# Altium integrated library PCIe_SIM7000.IntLib: 1 symbol
Pins are listed as number, name and electrical type; pins without a type are passive.

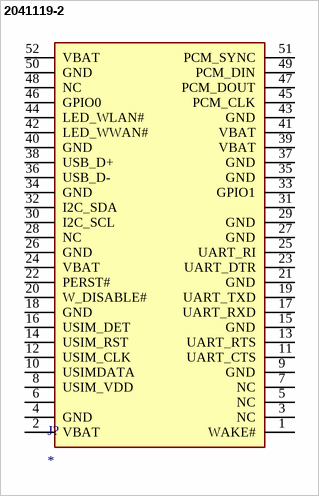
[diagram p0: symbol 2041119-2]

## 2041119-2
designator J?
Connector; Manufacturer_Name: TE Connectivity; Manufacturer_Part_Number: 2041119-2; Datasheet Link: https://componentsearchengine.com//2041119-2.pdf; Height: 4mm; Mouser2 Part Number: 571-2041119-2; Mouser2 Price/Stock: https://www.mouser.com/Search/Refine.aspx?Keyword=571-2041119-2
footprint PCIe
footprint PCIe tarjeta
pins: 1 WAKE#, 2 VBAT "3.3V", 3 NC, 4 GND, 5 NC, 6 "UNKNOW", 7 NC, 8 USIM_VDD "USIM card interface", 9 GND, 10 USIMDATA "USIM card interface", 11 UART_CTS "UART interface", 12 USIM_CLK "USIM card interface", 13 UART_RTS "UART", 14 USIM_RST "USIM card interface", 15 GND, 16 USIM_DET "USIM card interface", 17 UART_RXD "UART", 18 GND, 19 UART_TXD "UART", 20 W_DISABLE#, 21 GND, 22 PERST#, 23 UART_DTR "UART", 24 VBAT "3.3V", 25 UART_RI "UART", 26 GND, 27 GND, 28 NC, 29 GND, 30 I2C_SCL "I2C interface", 31 "UNKNOW", 32 I2C_SDA, 33 GPIO1, 34 GND, 35 GND, 36 USB_D- "USB interface", 37 GND, 38 USB_D+ "USB interface", 39 VBAT "3.3V", 40 GND, 41 VBAT "3.3V", 42 LED_WWAN#, 43 GND, 44 LED_WLAN#, 45 PCM_CLK (oc) "PCM interface", 46 GPIO0, 47 PCM_DOUT "PCM interface", 48 NC, 49 PCM_DIN "PCM interface", 50 GND, 51 PCM_SYNC "PCM interface", 52 VBAT "3.3V", MP1 hidden to GND, MP2 hidden to GND